# Altium footprint library XS128.PcbLib: 26 footprints (part 1 of 2)
Each footprint in its own frame and in the unit in brackets; x right, y up, seen from the top. Pads: shape width x height; smd on the part's side, far side on the other; paste and mask are expansions set on the pad; w line width, h text height; cw(c..) or ccw(c..) is an arc to the next point about the centre after c.
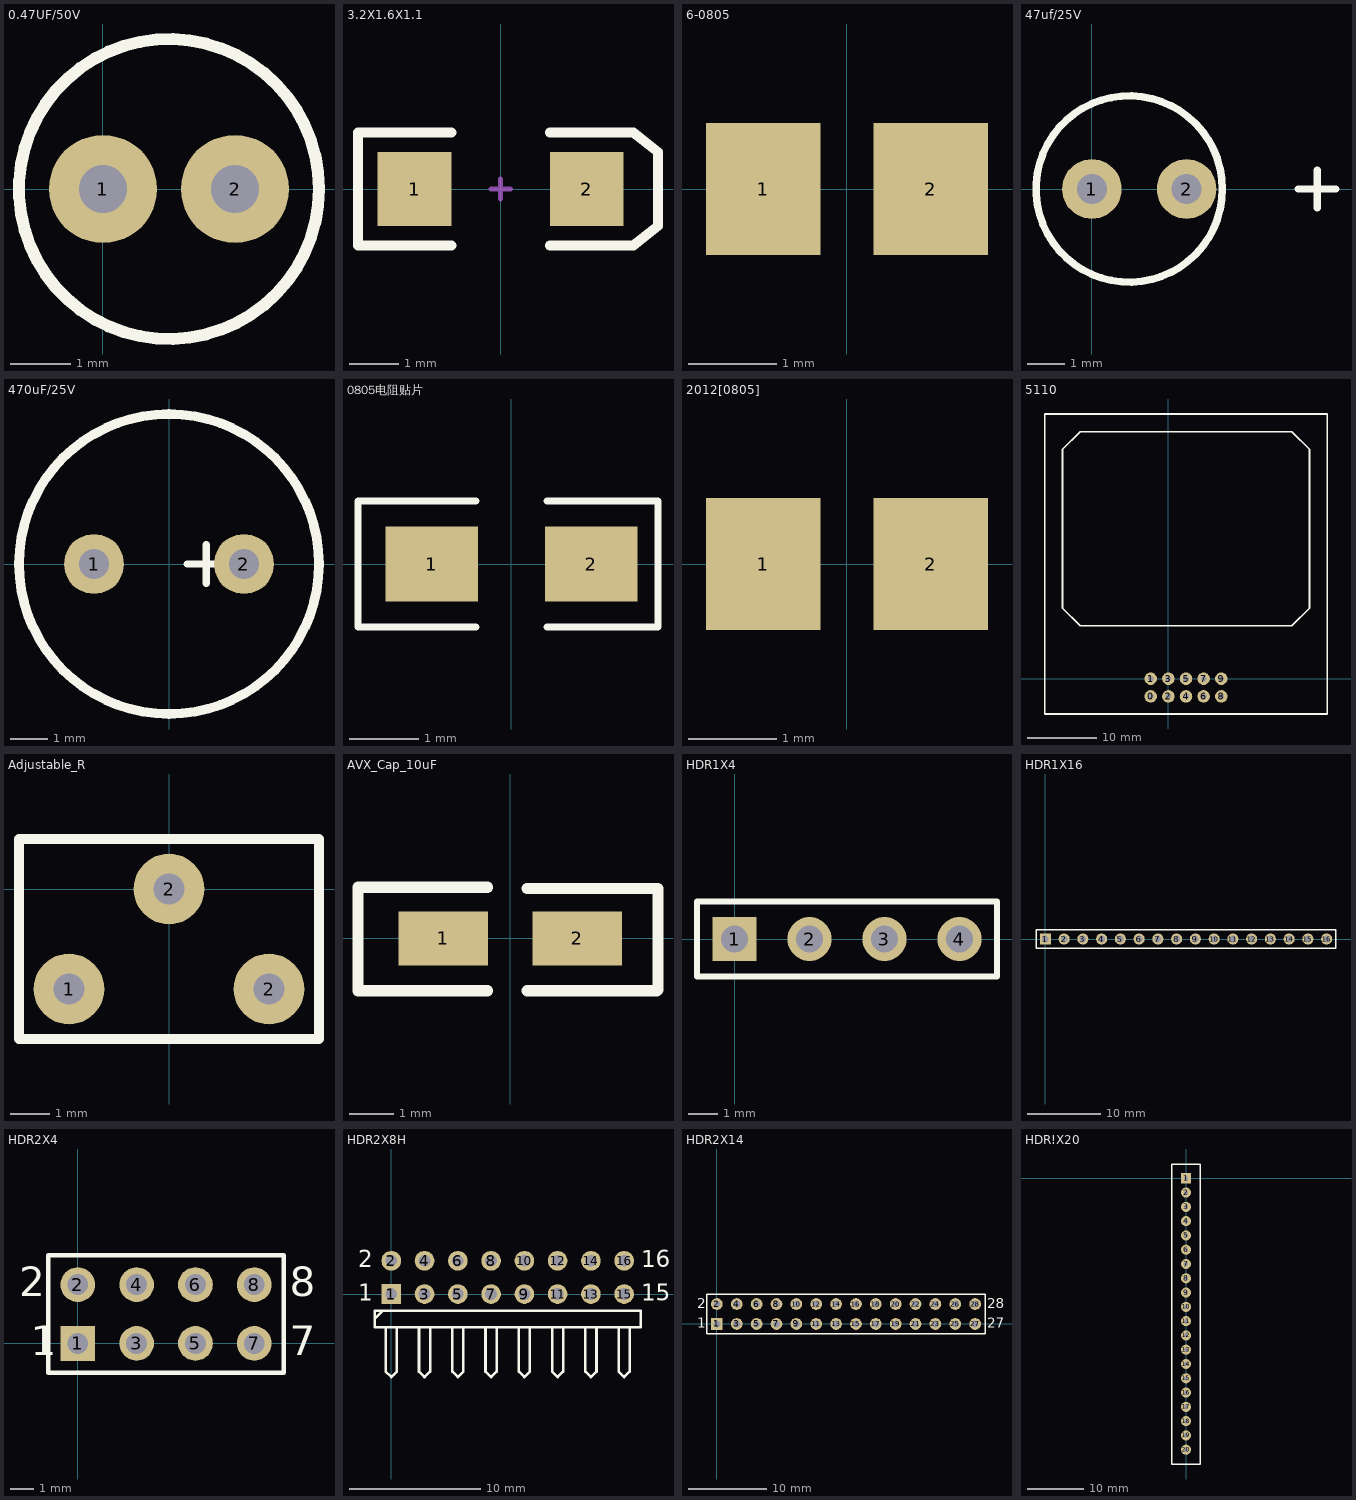
[diagram p0: the footprints below, top view; thin cyan lines are the x and y axes]

## 0.47UF/50V [mm]
pads (2):
  round 1.8 hole 0.8: 1(0,0) 2(2.2,0)
Top Overlay:
  circle w0.2: c1.1,0 r2.5

## 3.2X1.6X1.1 [mm] "SMT LED; 2 Flat Leads"
height 1.2
pads (2):
  rect 1.5x1.5 smd: 1(-1.75,0) 2(1.75,0)
Top Overlay:
  lines w0.2: -1,-1.15 -2.9,-1.15 -2.9,1.15 -1,1.15 ; 1,-1.15 2.7,-1.15 3.2,-0.75 3.2,0.75 2.7,1.15 1,1.15
Mechanical 1:
  lines w0.1: -0.2,0 0.2,0 ; 0,-0.2 0,0.2

## 6-0805 [mm] "Chip Resistor; Body 2.0 x 1.3 mm (LxW typ)"
height 0.65
pads (2):
  rect 1.3x1.5 smd: 1(-0.95,0) 2(0.95,0)

## 47uf/25V [mm]
pads (2):
  round 1.6 hole 0.8: 1(0,0) 2(2.54,0)
Top Overlay:
  circle w0.2: c1,0 r2.5
  lines w0.2: 5.532,0 6.548,0 ; 6.04,-0.508 6.04,0.508

## 470uF/25V [mm]
pads (2):
  round 1.6 hole 0.8: 1(-2,0) 2(2,0)
Top Overlay:
  circle w0.254: c0,0 r4
  lines w0.2: 0.492,0 1.508,0 ; 1,-0.508 1,0.508

## 0805电阻贴片 [mil]
pads (2):
  rect 52.13x42.13 smd: 1(-45,0) 2(45,0)
Top Overlay:
  lines w3.94: -20,-35.43 -86.61,-35.43 -86.61,35.43 -20,35.43 ; 20,-35.43 82.68,-35.43 82.68,35.43 20,35.43

## 2012[0805] [mm] "Chip Resistor; Body 2.0 x 1.3 mm (LxW typ)"
height 2.54
pads (2):
  rect 1.3x1.5 smd: 1(-0.95,0) 2(0.95,0)

## 5110 [mm]
pads (10):
  round 1.8 hole 0.8: 0(-2.54,-2.54) 1(-2.54,0) 2(0,-2.54) 3(0,0) 4(2.54,-2.54) 5(2.54,0) 6(5.08,-2.54) 7(5.08,0) 8(7.62,-2.54) 9(7.62,0)
Top Overlay:
  lines w0.254: -17.78,-5.08 22.86,-5.08 22.86,38.1 -17.78,38.1 -17.78,-5.08 ; -15.24,10.16 -15.24,33.02 -12.7,35.56 17.78,35.56 20.32,33.02 20.32,10.16 17.78,7.62 -12.7,7.62 -15.24,10.16

## Adjustable_R [mm]
pads (3):
  round 1.8 hole 0.8: 1(-2.54,-2.54) 2(0,0) 2(2.54,-2.54)
Top Overlay:
  lines w0.254: -3.81,-3.81 -3.81,1.27 3.81,1.27 3.81,-3.81 -3.81,-3.81

## AVX_Cap_10uF [mm]
pads (2):
  rect 2x1.2 smd: 1(-1.5,0) 2(1.5,0)
Top Overlay:
  lines w0.254: -0.508,-1.168 -3.404,-1.168 -3.404,-0.591 -3.404,0.565 -3.404,1.143 -2.565,1.143 ; 0.381,-1.168 3.277,-1.168 3.302,-1.143 3.302,1.118 0.381,1.118 ; -2.565,1.143 -0.508,1.143 -2.565,1.143

## HDR1X4 [mm] "Connector; Header; 4 Position"
pads (4):
  rect 1.5x1.5 hole 0.9: 1(0,0)
  round 1.5 hole 0.9: 2(2.54,0) 3(5.08,0) 4(7.62,0)
Top Overlay:
  lines w0.2: -1.27,-1.27 -1.27,1.27 8.89,1.27 8.89,-1.27 -1.27,-1.27

## HDR1X16 [mm] "Connector; Header; 16 Position"
pads (16):
  rect 1.5x1.5 hole 0.9: 1(0,0)
  round 1.5 hole 0.9: 2(2.54,0) 3(5.08,0) 4(7.62,0) 5(10.16,0) 6(12.7,0) 7(15.24,0) 8(17.78,0) 9(20.32,0) 10(22.86,0) 11(25.4,0) 12(27.94,0) 13(30.48,0) 14(33.02,0) 15(35.56,0) 16(38.1,0)
Top Overlay:
  lines w0.2: -1.27,-1.27 -1.27,1.27 0.635,1.27 39.37,1.27 39.37,-1.27 -1.27,-1.27

## HDR2X4 [mm] "Connector; Header; 4x2 Position"
pads (8):
  rect 1.5x1.5 hole 0.9: 1(0,0)
  round 1.5 hole 0.9: 2(0,2.54) 3(2.54,0) 4(2.54,2.54) 5(5.08,0) 6(5.08,2.54) 7(7.62,0) 8(7.62,2.54)
Top Overlay:
  lines w0.2: -1.27,-1.27 -1.27,3.81 8.89,3.81 8.89,-1.27 -1.27,-1.27
  text "8" at 9.144,2.032 h1.27
  text "7" at 9.144,-0.508 h1.27
  text "1" at -2.032,-0.508 h1.27
  text "2" at -2.54,2.032 h1.27

## HDR2X8H [mm] "Connector; Header; 8x2 Position; Right Angle"
pads (16):
  rect 1.5x1.5 hole 0.9: 1(0,0)
  round 1.5 hole 0.9: 2(0,2.54) 3(2.54,0) 4(2.54,2.54) 5(5.08,0) 6(5.08,2.54) 7(7.62,0) 8(7.62,2.54) 9(10.16,0) 10(10.16,2.54) 11(12.7,0) 12(12.7,2.54) 13(15.24,0) 14(15.24,2.54) 15(17.78,0) 16(17.78,2.54)
Top Overlay:
  lines w0.2: -1.27,-1.905 -0.635,-1.27 ; -0.423,-2.54 -0.423,-5.927 0,-6.35 0.423,-5.927 0.423,-2.54 ; 2.117,-2.54 2.117,-5.927 2.54,-6.35 2.963,-5.927 2.963,-2.54 ; 4.657,-2.54 4.657,-5.927 5.08,-6.35 5.503,-5.927 5.503,-2.54 ; 7.197,-2.54 7.197,-5.927 7.62,-6.35 8.043,-5.927 8.043,-2.54 ; 9.737,-2.54 9.737,-5.927 10.16,-6.35 10.583,-5.927 10.583,-2.54 ; 12.277,-2.54 12.277,-5.927 12.7,-6.35 13.123,-5.927 13.123,-2.54 ; 14.817,-2.54 14.817,-5.927 15.24,-6.35 15.663,-5.927 15.663,-2.54 ; 17.357,-2.54 17.357,-5.927 17.78,-6.35 18.203,-5.927 18.203,-2.54 ; -1.27,-2.54 19.05,-2.54 19.05,-1.27 -1.27,-1.27 -1.27,-2.54
  text "16" at 19.092,2.032 h1.27
  text "15" at 19.069,-0.508 h1.27
  text "1" at -2.54,-0.508 h1.27
  text "2" at -2.54,2.032 h1.27

## HDR2X14 [mm] "Connector; Header; 14x2 Position"
pads (28):
  rect 1.5x1.5 hole 0.9: 1(0,0)
  round 1.5 hole 0.9: 2(0,2.54) 3(2.54,0) 4(2.54,2.54) 5(5.08,0) 6(5.08,2.54) 7(7.62,0) 8(7.62,2.54) 9(10.16,0) 10(10.16,2.54) 11(12.7,0) 12(12.7,2.54) 13(15.24,0) 14(15.24,2.54) 15(17.78,0) 16(17.78,2.54) 17(20.32,0) 18(20.32,2.54) 19(22.86,0) 20(22.86,2.54) 21(25.4,0) 22(25.4,2.54) 23(27.94,0) 24(27.94,2.54) 25(30.48,0) 26(30.48,2.54) 27(33.02,0) 28(33.02,2.54)
Top Overlay:
  lines w0.2: -1.27,-1.27 -1.27,3.81 34.29,3.81 34.29,-1.27 -1.27,-1.27
  text "2" at -2.54,2.032 h1.27
  text "1" at -2.54,-0.508 h1.27
  text "27" at 34.544,-0.508 h1.27
  text "28" at 34.544,2.032 h1.27

## HDR!X20 [mm]
pads (20):
  rect 1.8x1.8 hole 0.8: 1(0,0)
  round 1.8 hole 0.8: 2(0,-2.54) 3(0,-5.08) 4(0,-7.62) 5(0,-10.16) 6(0,-12.7) 7(0,-15.24) 8(0,-17.78) 9(0,-20.32) 10(0,-22.86) 11(0,-25.4) 12(0,-27.94) 13(0,-30.48) 14(0,-33.02) 15(0,-35.56) 16(0,-38.1) 17(0,-40.64) 18(0,-43.18) 19(0,-45.72) 20(0,-48.26)
Top Overlay:
  lines w0.254: -2.54,-50.8 -2.54,2.54 2.54,2.54 2.54,-50.8 -2.54,-50.8